# Altium schematic symbol library U.FL-R-SMT.SchLib: 1 symbol
Pins are listed as number, name and electrical type; pins without a type are passive.

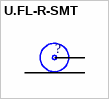
[diagram p0: symbol U.FL-R-SMT]

## U.FL-R-SMT
designator ?  (value not drawn)
MP: U.FL-R-SMT; MF: Hirose Electric; Package: None; Price: None; Availability: Unavailable; SnapEDA_Link: https://www.snapeda.com/parts/U.FL-R-SMT/Hirose%20Electric%20Co%20Ltd/view-part/?ref=snap; Value: *
footprint *U.FL-R-SMT_U.FL-R-SMT(Primary)
pins: P$1, P$2 (power), P$3 (power)